# EAGLE library part LM5022 (library BW-Active)
Boost controller
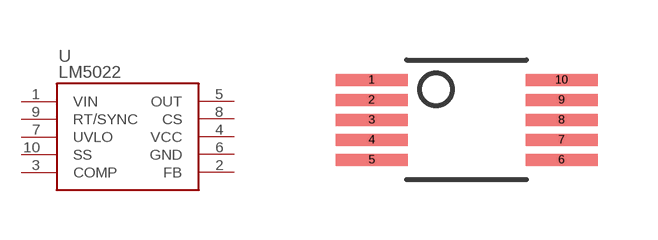
[diagram p49: symbol with the pads of VSSOP10; footprint VSSOP10]

Designator prefix U

## LM5022  [VSSOP10]
1  VIN
2  FB
3  COMP
4  VCC
5  OUT
6  GND
7  UVLO
8  CS
9  RT/SYNC
10  SS

## Footprint VSSOP10 (pad centres in mm)
smd 1.8 x 0.3: 1 -2.375,1; 2 -2.375,0.5; 3 -2.375,0; 4 -2.375,-0.5; 5 -2.375,-1; 6 2.375,-1; 7 2.375,-0.5; 8 2.375,0; 9 2.375,0.5; 10 2.375,1